# Altium schematic symbol library VLS5045EX-3R3N.SchLib: 1 symbol
Pins are listed as number, name and electrical type; pins without a type are passive.

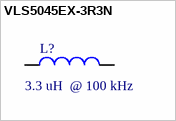
[diagram p0: symbol VLS5045EX-3R3N]

## VLS5045EX-3R3N
designator L?  Inductance: 3.3 uH  @ 100 kHz  (hidden comment: VLS5045EX-3R3N)
FIXED IND 3.3UH 4.2A 35.1 MOHM; Tolerance: 30%; Rated Current: 4.2; DCR (TYP): 27 mOhms; PN: VLS5045EX-3R3N; Package: CUSTOM; Footprint: VLS5045EX-3R3N; ComponentLink1Description: Datasheet; ComponentLink1URL: https://product.tdk.com/info/en/catalog/datasheets/inductor_commercial_power_vls5045ex_en.pdf?ref_disty=digikey; Supplier 1: Digi-Key; Supplier Part Number 1: 445-174398-1-ND
footprint VLS5045EX-3R3N (A footprint for VLS5045EX-3R3N)
pins: 1, 2